# Altium footprint library TFT_4_ILI9486.PcbLib: 1 footprints
Each footprint in its own frame and in the unit in brackets; x right, y up, seen from the top. Pads: shape width x height; smd on the part's side, far side on the other; paste and mask are expansions set on the pad; w line width, h text height; cw(c..) or ccw(c..) is an arc to the next point about the centre after c.
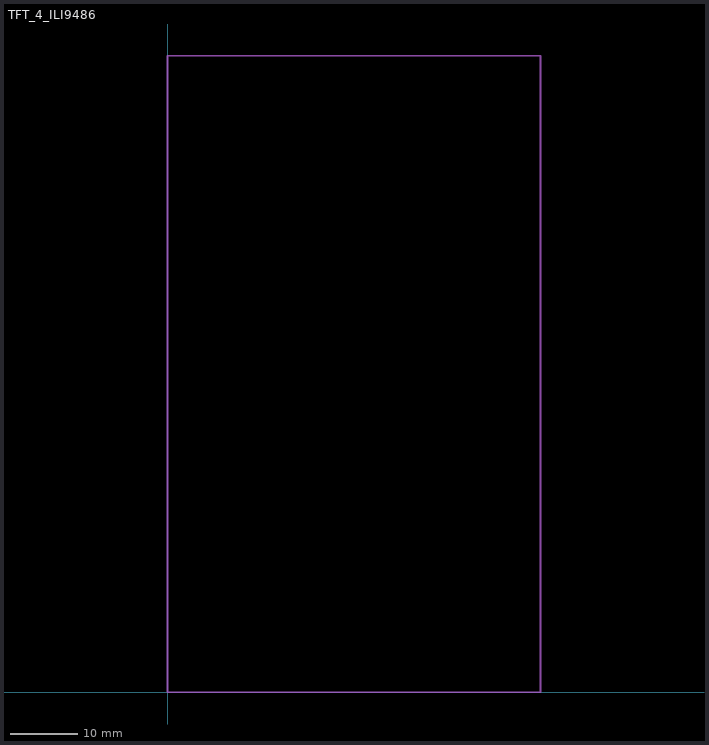
[diagram p0: the footprint, top view; thin cyan lines are the x and y axes]

## TFT_4_ILI9486 [mm]
Mechanical 1:
  lines w0.254: 0,0 55.68,0 55.68,95 0,95 0,0